# Altium integrated library 200MDP1T1B1M2QEH.IntLib: 1 symbol
Pins are listed as number, name and electrical type; pins without a type are passive.

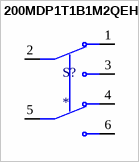
[diagram p0: symbol 200MDP1T1B1M2QEH]

## 200MDP1T1B1M2QEH
designator S?
MP: 200MDP1T1B1M2QEH; Availability: Unavailable; Package: None; Price: None; Value: *
footprint SW_200MDP1T1B1M2QEH
pins: 1 NC1, 2 COM1, 3 NO1, 4 NC2, 5 COM2, 6 NO2